# Altium schematic symbol library TS12A12511.SchLib: 1 symbol
Pins are listed as number, name and electrical type; pins without a type are passive.

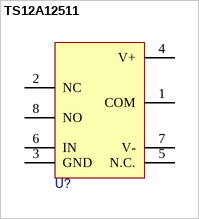
[diagram p0: symbol TS12A12511]

## TS12A12511
designator U?
pins: 1 COM, 2 NC, 3 GND, 4 V+, 5 N.C., 6 IN, 7 V-, 8 NO